# Altium footprint library Switches.PcbLib: 6 footprints
Each footprint in its own frame and in the unit in brackets; x right, y up, seen from the top. Pads: shape width x height; smd on the part's side, far side on the other; paste and mask are expansions set on the pad; w line width, h text height; cw(c..) or ccw(c..) is an arc to the next point about the centre after c.
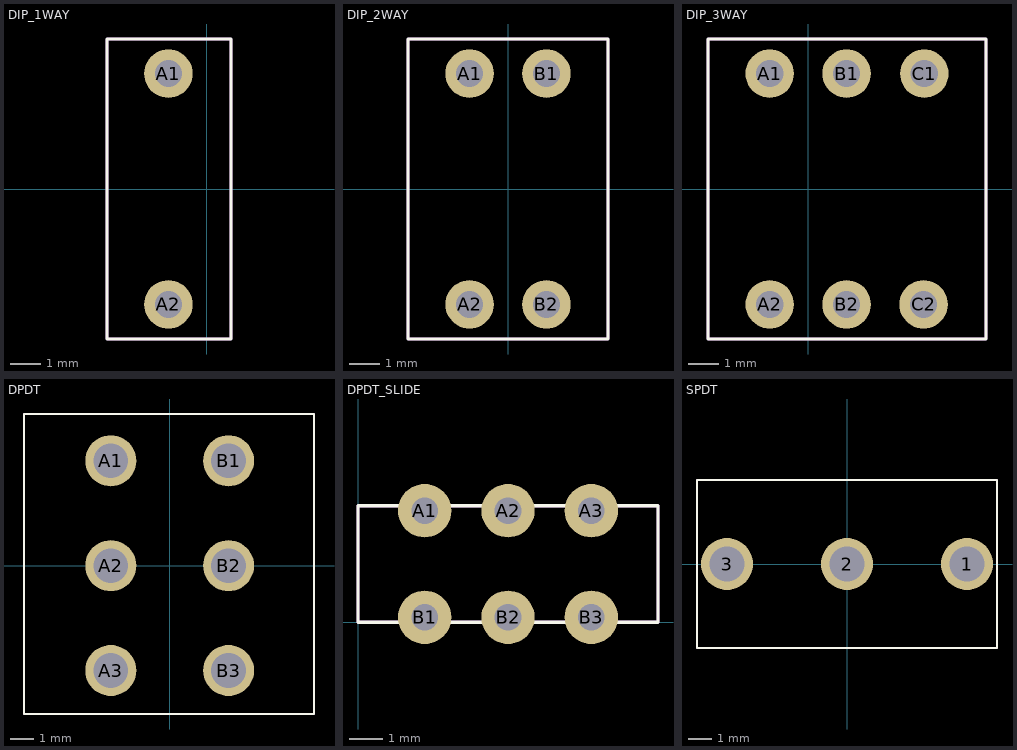
[diagram p0: the footprints below, top view; thin cyan lines are the x and y axes]

## DIP_1WAY [mil]
pads (2):
  round 62.99 hole 35.43: A1(-50,150) A2(-50,-150)
Top Overlay:
  lines w3.94: -130,-195 31.5,-195 31.5,195 -130,195 -130,-195
Mechanical 2:
  lines w3.94: -130,-195 -130,195 31.5,195 31.5,-195 -130,-195
3D body "DIP_1WAY.step": height 258.64, standoff -153.82, extent -127.98,-196.85 29.5,196.85

## DIP_2WAY [mil]
pads (4):
  round 62.99 hole 35.43: A1(-50,150) A2(-50,-150) B1(50,150) B2(50,-150)
Top Overlay:
  lines w3.94: -130,-195 130,-195 130,195 -130,195 -130,-195
Mechanical 2:
  lines w3.94: -130,-195 -130,195 130,195 130,-195 -130,-195
3D body "DIP_2WAY.step": height 271.65, standoff -125.98, extent -131.38,-200 138,200

## DIP_3WAY [mil]
pads (6):
  round 62.99 hole 35.43: A1(-50,150) A2(-50,-150) B1(50,150) B2(50,-150) C1(151,150) C2(150,-150)
Top Overlay:
  lines w3.94: -130,-195 -130,195 231,195 231,-195 -130,-195
Mechanical 2:
  lines w3.94: -130,-195 231,-195 231,195 -130,195 -130,-195
3D body "DIP_3WAY.step": height 280.51, standoff -125, extent -130.7,-194.87 230.71,194.89

## DPDT [mm]
pads (6):
  round 2.2 hole 1.5: A1(-2.54,4.521) A2(-2.54,0) A3(-2.54,-4.521) B1(2.54,4.521) B2(2.54,0) B3(2.54,-4.521)
Top Overlay:
  lines w0.1: -6.281,-6.396 6.219,-6.396 6.219,6.54 -6.281,6.54 -6.281,-6.396
Mechanical 2:
  lines w0.1: -6.281,-6.396 -6.281,6.54 6.219,6.54 6.219,-6.396 -6.281,-6.396
3D body: height 0.25, standoff 0, extent 9.398,-1.143 9.398,-1.143
3D body: height 0.25, standoff 0, extent 9.398,-1.397 9.398,-1.397
3D body: height 0.25, standoff 0, extent 9.398,-1.397 9.398,-1.397
3D body "DPDT.stp": height 32.33, standoff -1.95, extent -5.932,-6.591 5.918,6.642

## DPDT_SLIDE [mm]
pads (6):
  round 1.6 hole 0.8: A1(2,3.35) A2(4.5,3.35) A3(7,3.35) B1(2,0.15) B2(4.5,0.15) B3(7,0.15)
Top Overlay:
  lines w0.1: 0,0 0,3.5 9,3.5 9,0 0,0
Mechanical 2:
  lines w0.1: 0,0 0,3.5 9,3.5 9,0 0,0
3D body "SLIDE_DPDT.STEP": height 5.5, standoff -2.95, extent 0,-0.051 9,3.549

## SPDT [mm]
pads (3):
  round 2.2 hole 1.5: 1(5.08,0) 2(0,0) 3(-5.08,0)
Top Overlay:
  lines w0.1: -6.35,-3.556 -6.35,3.556 6.35,3.556 6.35,-3.556 -6.35,-3.556
Mechanical 2:
  lines w0.1: -6.35,-3.556 6.35,-3.556 ; -6.35,-3.556 -6.35,3.556 ; -6.35,-3.556 -6.35,3.556 ; -6.35,-3.556 6.35,-3.556 ; -6.35,3.556 6.35,3.556 ; -6.35,3.556 6.35,3.556 ; 6.35,-3.556 6.35,3.556 ; 6.35,-3.556 6.35,3.556
3D body: height 0.25, standoff 0, extent -1.524,-3.683 -1.524,-3.683
3D body: height 0.25, standoff 0, extent -1.651,-3.556 -1.651,-3.556
3D body: height 0.25, standoff 0, extent -1.651,-3.556 -1.651,-3.556
3D body "SPDT.stp": height 28.27, standoff -3.23, extent -6.25,-3.373 6.25,3.327